# Altium footprint library INF-PG-VQFN32-9-V1.PcbLib: 1 footprints
Each footprint in its own frame and in the unit in brackets; x right, y up, seen from the top. Pads: shape width x height; smd on the part's side, far side on the other; paste and mask are expansions set on the pad; w line width, h text height; cw(c..) or ccw(c..) is an arc to the next point about the centre after c.
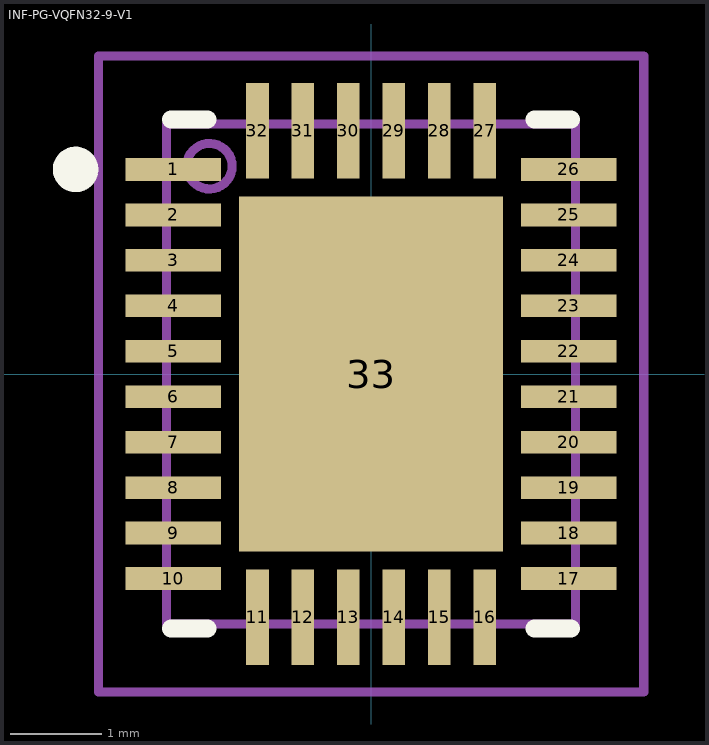
[diagram p0: the footprint, top view; thin cyan lines are the x and y axes]

## INF-PG-VQFN32-9-V1 [mm] "VQFN, 0.50mm Pitch, 32 Pin, 5.5mm L X 4.5mm W X 0.9mm H body (w/thermal tab)"
height 0.9
pads (33):
  rect 1.05x0.25 smd paste-0.525 mask+0: 1(-2.175,2.25) 2(-2.175,1.75) 3(-2.175,1.25) 4(-2.175,0.75) 5(-2.175,0.25) 6(-2.175,-0.25) 7(-2.175,-0.75) 8(-2.175,-1.25) 9(-2.175,-1.75) 10(-2.175,-2.25) 17(2.175,-2.25) 18(2.175,-1.75) 19(2.175,-1.25) 20(2.175,-0.75) 21(2.175,-0.25) 22(2.175,0.25) 23(2.175,0.75) 24(2.175,1.25) 25(2.175,1.75) 26(2.175,2.25)
  rect 0.25x1.05 smd paste-0.525 mask+0: 11(-1.25,-2.675) 12(-0.75,-2.675) 13(-0.25,-2.675) 14(0.25,-2.675) 15(0.75,-2.675) 16(1.25,-2.675) 27(1.25,2.675) 28(0.75,2.675) 29(0.25,2.675) 30(-0.25,2.675) 31(-0.75,2.675) 32(-1.25,2.675)
  rect 2.9x3.9 smd paste-1.95 mask+0: 33(0,0)
Top Overlay:
  circle w0.25: c-3.25,2.25 r0.125
  lines w0.2: -2.2,-2.8 -1.8,-2.8 ; -2.2,2.8 -1.8,2.8 ; 1.8,-2.8 2.2,-2.8 ; 1.8,2.8 2.2,2.8
Top Paste:
  drawing of 38 lines, arcs and shapes, not listed
M3 (ASY_Text_Top):
  text ".DESIGNATOR" at -3.643,-0.385 h1.2
M13 (CMP_Body_OTL_Top):
  circle w0.1: c-1.778,2.286 r0.25
  lines w0.1: -2.25,-2.75 2.25,-2.75 2.25,2.75 -2.25,2.75 -2.25,-2.75
M15 (CMP_Courtyard_Top):
  lines w0.1: -0.5,0 0.5,0 ; 0,-0.5 0,0.5 ; -3,-3.5 -3,3.5 3,3.5 3,-3.5 -3,-3.5
3D body "PG-VQFN-32-9.stp": height 0.91, standoff 0, extent -2.25,-2.75 2.25,2.75